# Altium footprint library PCB - DIODES - DIOM5226X262N.PCBLIB: 1 footprints
Each footprint in its own frame and in the unit in brackets; x right, y up, seen from the top. Pads: shape width x height; smd on the part's side, far side on the other; paste and mask are expansions set on the pad; w line width, h text height; cw(c..) or ccw(c..) is an arc to the next point about the centre after c.
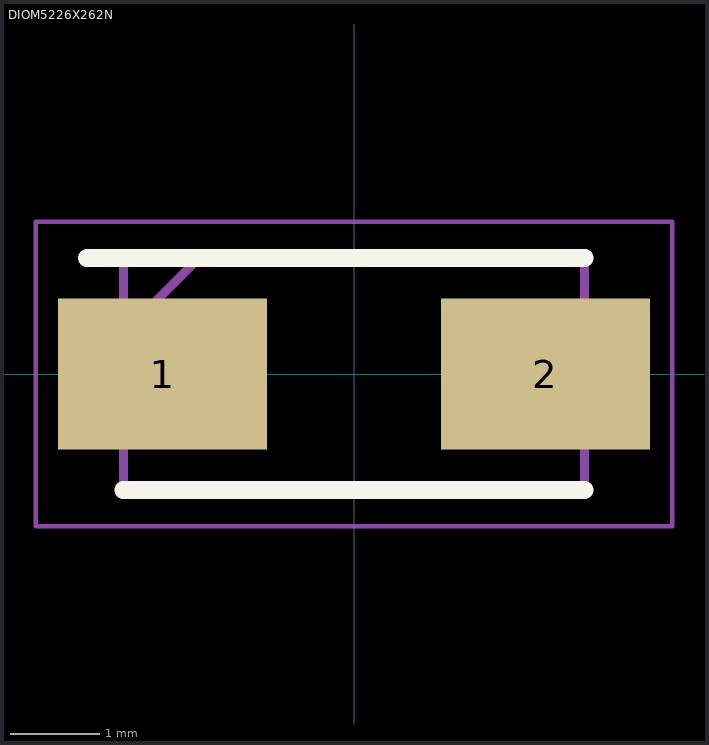
[diagram p0: the footprint, top view; thin cyan lines are the x and y axes]

## DIOM5226X262N [mm]
pads (2):
  rect 2.35x1.7 smd: 1(-2.15,0) 2(2.15,0)
Top Overlay:
  lines w0.2: -3,1.302 2.592,1.302 ; -2.592,-1.302 2.592,-1.302
Top Assembly:
  lines w0.1: -2.592,0.452 -1.742,1.302 ; -2.592,-1.302 2.592,-1.302 2.592,1.302 -2.592,1.302 -2.592,-1.302
Top Courtyard:
  lines w0.05: -3.575,-1.71 3.575,-1.71 3.575,1.71 -3.575,1.71 -3.575,-1.71
Top Designator:
  text ".Designator" at -0.983,2.06 h1
Top Value (Mech13):
  text ".Comment" at -0.508,-2.529 h1
3D body "CMSH2-60M_TR13_PBFREE.stp": height 2.62, standoff 0, extent -2.592,-1.302 2.592,1.302